# Altium schematic symbol library ADUM1201CRZ-RL7.SchLib: 1 symbol
Pins are listed as number, name and electrical type; pins without a type are passive.

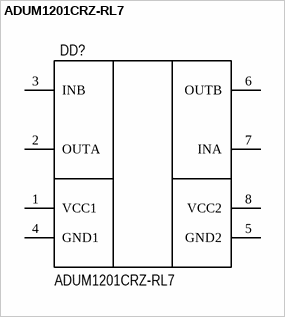
[diagram p0: symbol ADUM1201CRZ-RL7]

## ADUM1201CRZ-RL7
designator DD?
Цифровой изолятор 2.5кВ, 2 канала, 1/1
footprint SOIC-8
pins: 1 VCC1, 2 OUTA, 3 INB, 4 GND1, 5 GND2, 6 OUTB, 7 INA, 8 VCC2